# Altium schematic symbol library S2B-PH-K-SLFSN.SchLib: 1 symbol
Pins are listed as number, name and electrical type; pins without a type are passive.

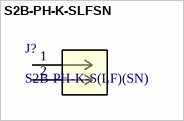
[diagram p0: symbol S2B-PH-K-SLFSN]

## S2B-PH-K-SLFSN
designator J?, comment S2B-PH-K-S(LF)(SN)
CONNECTOR; MALE; THROUGH HOLE; 2.0MM PITCH; DISCONNECTABLE CRIMP STYLE CONNECTOR; SIDE ENTRY TYPE; RIGHT ANGLE; 2PINS; Manufacturer_Name: JST; Copyright: Copyright (C) 2025 Ultra Librarian. All rights reserved.; Manufacturer_Part_Number: S2B-PH-K-S(LF)(SN); RefDes: RefDes; Type: Type
footprint CONN_S2B-PH-K-S_JST
pins: 1, 2